# Altium schematic symbol library MCU STM8.SchLib: 2 symbols
Pins are listed as number, name and electrical type; pins without a type are passive.

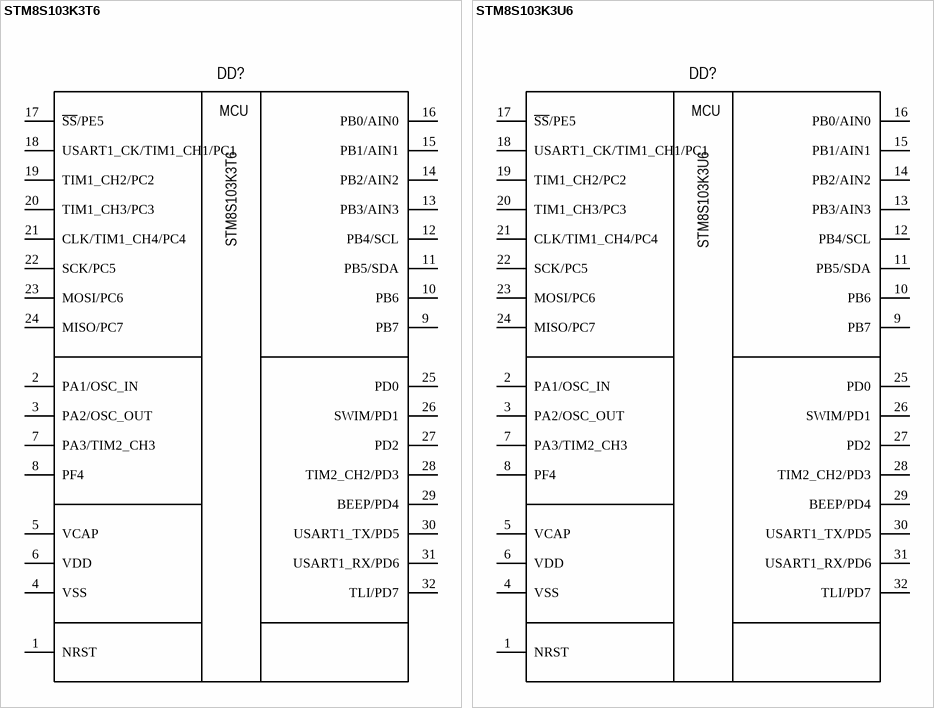
[diagram p0: symbols STM8S103K3T6 to STM8S103K3U6]

## STM8S103K3T6
designator DD?
MCU STM8S; Manufacturer: STMicroelectronics; Group: Digital - MCU; Core Size: 32 Bit; Speed: 16MHz; Connectivity: USART, SPI, I2C, LIN, IrDA; Number of I/O: 28; Program Memory Size: 8KB; Core Processor: STM8; RAM Size: 1KB; Voltage Supply: 2.95V - 5.50V; Data Converters: ADC10x4; EEPROM Size: 640B; Clock sources: TCx3; Package: LQFP-32; Part name: STM8S103K3T6; Operating Temperature: -40°C +85°C; Thickness: 1.60mm; Dimension: 9.00mm x 9.00mm; Mounting Type: Surface Mount
footprint LQFP-32 (LQFP, 32-Leads, Body 7,00x7,00mm, Pitch 0,80mm, IPC Medium Density)
pins: 1 NRST, 2 PA1/OSC_IN, 3 PA2/OSC_OUT, 4 VSS, 5 VCAP, 6 VDD, 7 PA3/TIM2_CH3, 8 PF4, 9 PB7, 10 PB6, 11 PB5/SDA, 12 PB4/SCL, 13 PB3/AIN3, 14 PB2/AIN2, 15 PB1/AIN1, 16 PB0/AIN0, 17 ~{SS}/PE5, 18 USART1_CK/TIM1_CH1/PC1, 19 TIM1_CH2/PC2, 20 TIM1_CH3/PC3, 21 CLK/TIM1_CH4/PC4, 22 SCK/PC5, 23 MOSI/PC6, 24 MISO/PC7, 25 PD0, 26 SWIM/PD1, 27 PD2, 28 TIM2_CH2/PD3, 29 BEEP/PD4, 30 USART1_TX/PD5, 31 USART1_RX/PD6, 32 TLI/PD7
text: MCU

## STM8S103K3U6
designator DD?
MCU STM8S; Manufacturer: STMicroelectronics; Group: Digital - MCU; Core Size: 32 Bit; Speed: 16MHz; Connectivity: USART, SPI, I2C, LIN, IrDA; Number of I/O: 28; Program Memory Size: 8KB; Core Processor: STM8; RAM Size: 1KB; Voltage Supply: 2.95V - 5.50V; Data Converters: ADC10x4; EEPROM Size: 640B; Clock sources: TCx3; Package: UQFN-32; Part name: STM8S103K3U6; Operating Temperature: -40°C +85°C; Thickness: 1.60mm; Dimension: 5.00mm x 5.00mm; Mounting Type: Surface Mount
footprint UQFN-32 (UQFN, 32-Leads, Body 5x5mm, Pitch 0.5mm, IPC Medium Density)
pins: 1 NRST, 2 PA1/OSC_IN, 3 PA2/OSC_OUT, 4 VSS, 5 VCAP, 6 VDD, 7 PA3/TIM2_CH3, 8 PF4, 9 PB7, 10 PB6, 11 PB5/SDA, 12 PB4/SCL, 13 PB3/AIN3, 14 PB2/AIN2, 15 PB1/AIN1, 16 PB0/AIN0, 17 ~{SS}/PE5, 18 USART1_CK/TIM1_CH1/PC1, 19 TIM1_CH2/PC2, 20 TIM1_CH3/PC3, 21 CLK/TIM1_CH4/PC4, 22 SCK/PC5, 23 MOSI/PC6, 24 MISO/PC7, 25 PD0, 26 SWIM/PD1, 27 PD2, 28 TIM2_CH2/PD3, 29 BEEP/PD4, 30 USART1_TX/PD5, 31 USART1_RX/PD6, 32 TLI/PD7
text: MCU